# Altium footprint library WL-OCTR.PcbLib: 7 footprints
Each footprint in its own frame and in the unit in brackets; x right, y up, seen from the top. Pads: shape width x height; smd on the part's side, far side on the other; paste and mask are expansions set on the pad; w line width, h text height; cw(c..) or ccw(c..) is an arc to the next point about the centre after c.
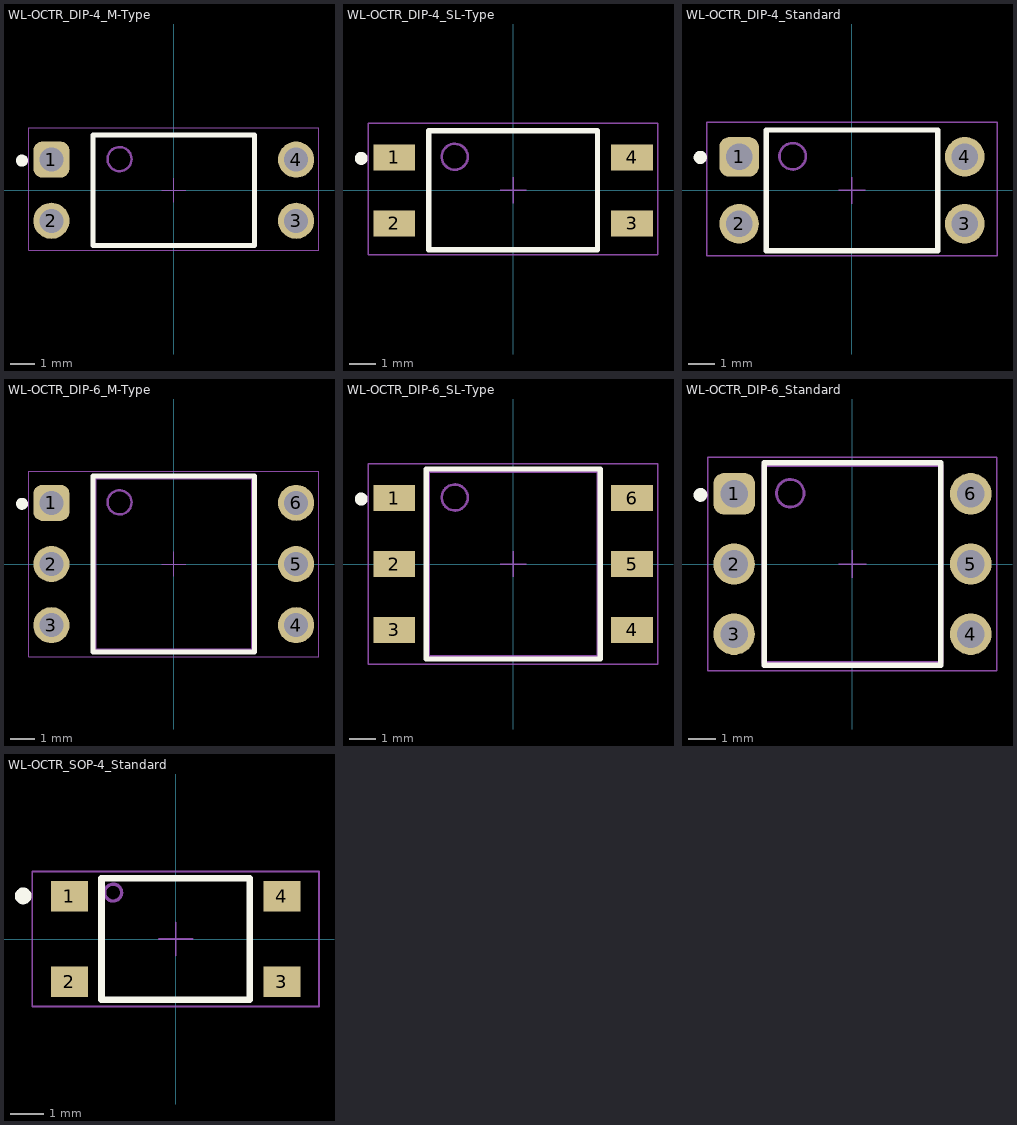
[diagram p0: the footprints below, top view; thin cyan lines are the x and y axes]

## WL-OCTR_DIP-4_M-Type [mm] "Phototransistor - Optokoppler, DIP6_ZeroCross  M"
height 3.5
pads (4):
  rrect50% 1.5x1.5 hole 1: 1(-5.08,1.27)
  round 1.5 hole 1: 2(-5.08,-1.27) 3(5.08,-1.27) 4(5.08,1.27)
Top Overlay:
  circle w0.25: c-6.3,1.23 r0.125
  lines w0.2: -3.35,-2.29 -3.35,2.29 3.35,2.29 3.35,-2.29 -3.35,-2.29
Top Component Outline:
  circle w0.1: c-2.25,1.29 r0.5
  lines w0.1: -3.35,-2.29 3.35,-2.29 3.35,2.29 -3.35,2.29 -3.35,-2.29
Top Courtyard:
  lines w0.05: -6.03,-2.49 6.03,-2.49 6.03,2.59 -6.03,2.59 -6.03,-2.49
Top Component Center:
  lines w0.05: -0.5,0 0.5,0 ; 0,-0.5 0,0.5
Top Designator (Mech19):
  text ".Designator" at -7.498,-0.5 h1.5
3D body "DIP4_ZeroCross(M).stp": height 4.75, standoff -2.02, extent -5.205,-2.29 5.205,2.29

## WL-OCTR_DIP-4_SL-Type [mm] "Phototransistor - Optokoppler, DIP6_ZeroCross  SL"
height 3.6
pads (4):
  rect 1.6x1 smd: 1(-4.575,1.27) 2(-4.575,-1.27) 3(4.575,-1.27) 4(4.575,1.27)
Top Overlay:
  circle w0.25: c-5.85,1.23 r0.125
  lines w0.2: -3.25,-2.29 -3.25,2.29 3.25,2.29 3.25,-2.29 -3.25,-2.29
Top Component Outline:
  circle w0.1: c-2.25,1.29 r0.5
  lines w0.1: -3.25,-2.29 3.25,-2.29 3.25,2.29 -3.25,2.29 -3.25,-2.29
Top Courtyard:
  lines w0.05: -5.575,-2.49 5.575,-2.49 5.575,2.59 -5.575,2.59 -5.575,-2.49
Top Component Center:
  lines w0.05: -0.5,0 0.5,0 ; 0,-0.5 0,0.5
Top Designator (Mech19):
  text ".Designator" at -7.498,-0.5 h1.5
3D body "DIP4_ZeroCoss(SL).stp": height 3.65, standoff 0.04, extent -5.075,-2.29 5.075,2.29

## WL-OCTR_DIP-4_Standard [mm] "Phototransistor - Optokoppler, DIP6_ZeroCross  M"
height 3.5
pads (4):
  rrect50% 1.5x1.5 hole 1: 1(-4.28,1.27)
  round 1.5 hole 1: 2(-4.28,-1.27) 3(4.28,-1.27) 4(4.28,1.27)
Top Overlay:
  circle w0.25: c-5.75,1.25 r0.125
  lines w0.2: -3.25,-2.29 -3.25,2.29 3.25,2.29 3.25,-2.29 -3.25,-2.29
Top Component Outline:
  circle w0.1: c-2.25,1.29 r0.5
  lines w0.1: -3.25,-2.29 3.25,-2.29 3.25,2.29 -3.25,2.29 -3.25,-2.29
Top Courtyard:
  lines w0.05: -5.5,-2.49 5.5,-2.49 5.5,2.59 -5.5,2.59 -5.5,-2.49
Top Component Center:
  lines w0.05: -0.5,0 0.5,0 ; 0,-0.5 0,0.5
Top Designator (Mech19):
  text ".Designator" at -7.498,-0.5 h1.5
3D body "DIP4_ZeroCross_Standard.stp": height 4.75, standoff -2.56, extent -4.377,-2.29 4.377,2.29

## WL-OCTR_DIP-6_M-Type [mm] "Phototransistor - Optokoppler, DIP6_ZeroCross  M"
height 3.5
pads (6):
  rrect50% 1.5x1.5 hole 1: 1(-5.08,2.54)
  round 1.5 hole 1: 2(-5.08,0) 3(-5.08,-2.54) 4(5.08,-2.54) 5(5.08,0) 6(5.08,2.54)
Top Overlay:
  circle w0.25: c-6.3,2.5 r0.125
  lines w0.2: -3.35,-3.66 -3.35,3.66 3.35,3.66 3.35,-3.66 -3.35,-3.66
Top Component Outline:
  circle w0.1: c-2.25,2.56 r0.5
  lines w0.1: 3.25,3.56 3.25,-3.56 -3.25,-3.56 -3.25,3.56 3.25,3.56 ; 3.25,3.56 3.25,3.56
Top Courtyard:
  lines w0.05: -6.03,-3.86 6.03,-3.86 6.03,3.86 -6.03,3.86 -6.03,-3.86
Top Component Center:
  lines w0.05: -0.5,0 0.5,0 ; 0,-0.5 0,0.5
Top Designator (Mech19):
  text ".Designator" at -7.498,-0.5 h1.5
3D body "WL-OCTR_DIP6_M.stp": height 4.4, standoff -2.38, extent -5.205,-3.56 5.205,3.56

## WL-OCTR_DIP-6_SL-Type [mm] "Phototransistor - Optokoppler, DIP6_ZeroCross  SL"
height 3.6
pads (6):
  rect 1.6x1 smd: 1(-4.575,2.54) 2(-4.575,0) 3(-4.575,-2.54) 4(4.575,-2.54) 5(4.575,0) 6(4.575,2.54)
Top Overlay:
  circle w0.25: c-5.85,2.5 r0.125
  lines w0.2: -3.35,-3.66 -3.35,3.66 3.35,3.66 3.35,-3.66 -3.35,-3.66
Top Component Outline:
  circle w0.1: c-2.25,2.56 r0.5
  lines w0.1: -3.25,-3.56 3.25,-3.56 3.25,3.56 -3.25,3.56 -3.25,-3.56
Top Courtyard:
  lines w0.05: -5.575,-3.86 5.575,-3.86 5.575,3.86 -5.575,3.86 -5.575,-3.86
Top Component Center:
  lines w0.05: -0.5,0 0.5,0 ; 0,-0.5 0,0.5
Top Designator (Mech19):
  text ".Designator" at -7.498,-0.5 h1.5
3D body "WL-OCTR_DIP6_SL.stp": height 3.63, standoff 0.02, extent -5.075,-3.56 5.075,3.56

## WL-OCTR_DIP-6_Standard [mm] "Phototransistor - Optokoppler, DIP6_ZeroCross  Standard"
height 3.5
pads (6):
  rrect50% 1.5x1.5 hole 1: 1(-4.28,2.54)
  round 1.5 hole 1: 2(-4.28,0) 3(-4.28,-2.54) 4(4.28,-2.54) 5(4.28,0) 6(4.28,2.54)
Top Overlay:
  circle w0.25: c-5.5,2.5 r0.125
  lines w0.2: -3.2,-3.66 -3.2,3.66 3.2,3.66 3.2,-3.66 -3.2,-3.66
Top Component Outline:
  circle w0.1: c-2.25,2.56 r0.5
  lines w0.1: -3.25,-3.56 3.25,-3.56 3.25,3.56 -3.25,3.56 -3.25,-3.56
Top Courtyard:
  lines w0.05: -5.23,-3.86 5.23,-3.86 5.23,3.86 -5.23,3.86 -5.23,-3.86
Top Component Center:
  lines w0.05: -0.5,0 0.5,0 ; 0,-0.5 0,0.5
Top Designator (Mech19):
  text ".Designator" at -7.498,-0.5 h1.5
3D body "WL-OCTR_DIP6_Standard.stp": height 4.4, standoff -2.91, extent -4.377,-3.56 4.377,3.56

## WL-OCTR_SOP-4_Standard [mm] "Phototransistor - Optokoppler, DIP6_ZeroCross  SL"
height 3.6
pads (4):
  rect 1.1x0.9 smd: 1(-3.15,1.27) 2(-3.15,-1.27) 3(3.15,-1.27) 4(3.15,1.27)
Top Overlay:
  circle w0.25: c-4.519,1.278 r0.125
  lines w0.2: -2.2,-1.8 -2.2,1.8 2.2,1.8 2.2,-1.8 -2.2,-1.8
Top Component Outline:
  circle w0.1: c-1.852,1.375 r0.25
  lines w0.1: -2.2,-1.8 2.2,-1.8 2.2,1.8 -2.2,1.8 -2.2,-1.8
Top Courtyard:
  lines w0.05: -4.25,-2 4.25,-2 4.25,2 -4.25,2 -4.25,-2
Top Component Center:
  lines w0.05: -0.5,0 0.5,0 ; 0,-0.5 0,0.5
Top Designator (Mech19):
  text ".Designator" at -7.498,-0.5 h1.5
3D body "WL-OCTR_142xx.stp": height 2.1, standoff 0, extent -3.5,-1.8 3.5,1.8